# Altium footprint library DecentralizeLV_LPDRV.PcbLib: 7 footprints
Each footprint in its own frame and in the unit in brackets; x right, y up, seen from the top. Pads: shape width x height; smd on the part's side, far side on the other; paste and mask are expansions set on the pad; w line width, h text height; cw(c..) or ccw(c..) is an arc to the next point about the centre after c.
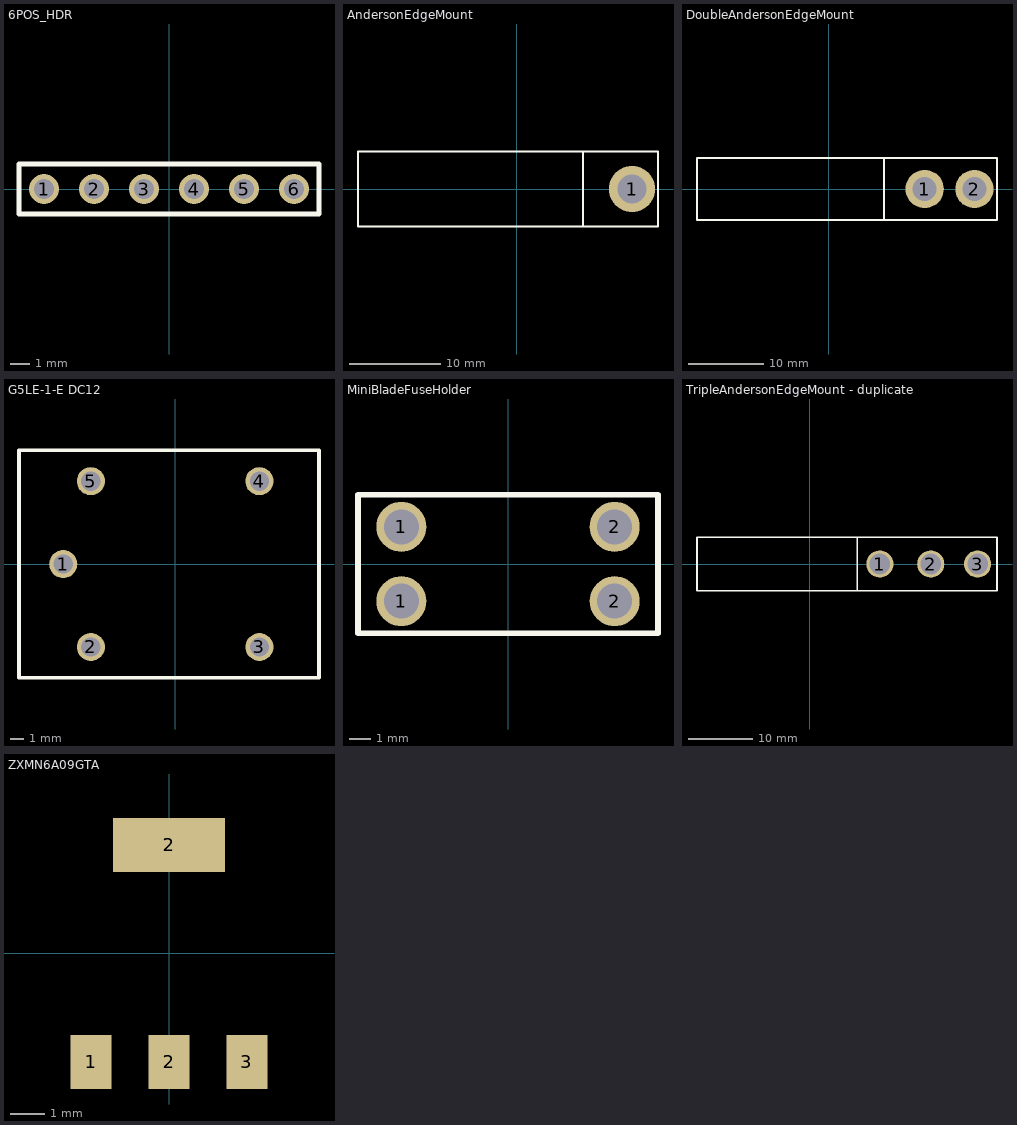
[diagram p0: the footprints below, top view; thin cyan lines are the x and y axes]

## 6POS_HDR [mil] "6 Position 0.1 Pitch Header"
pads (6):
  round 60 hole 40: 1(-250,0) 2(-150,0) 3(-50,0) 4(50,0) 5(150,0) 6(250,0)
Top Overlay:
  lines w10: -300,-50 300,-50 300,50 -300,50 -300,-50

## AndersonEdgeMount [mil] "An edge mounted anderson connector!"
pads (1):
  round 200 hole 125: 1(500,0)
Top Overlay:
  lines w10: 287.5,-162.5 287.5,162.5 ; 287.5,-162.5 612.5,-162.5 612.5,162.5 287.5,162.5 ; 287.5,-162.5 287.5,162.5 ; 287.5,-162.5 -687.5,-162.5 -687.5,162.5 287.5,162.5

## DoubleAndersonEdgeMount [mil] "An edge mounted anderson connector!"
pads (2):
  round 200 hole 125: 1(500,0) 2(760,0)
Top Overlay:
  lines w10: 552.5,-162.5 877.5,-162.5 877.5,162.5 552.5,162.5 ; 612.5,-162.5 287.5,-162.5 ; 612.5,162.5 287.5,162.5 ; 287.5,-162.5 -687.5,-162.5 -687.5,162.5 287.5,162.5 ; 287.5,-162.5 287.5,162.5 ; 287.5,-162.5 287.5,162.5

## G5LE-1-E DC12 [mil] "GeneralPurposeRelay16A"
pads (5):
  round 80 hole 55: 1(-318.9,0) 2(-240.16,-236.22) 3(240.16,-236.22) 4(240.16,236.22) 5(-240.16,236.22)
Top Overlay:
  lines w10: -445,-324.61 410,-324.61 410,325 -445,325 -445,-324.61

## MiniBladeFuseHolder [mil]
pads (4):
  round 90 hole 63: 1(-192,-67) 1(-192,67) 2(192,-67) 2(192,67)
Top Overlay:
  lines w10: -270,-125 270,-125 270,125 -270,125 -270,-125

## TripleAndersonEdgeMount - duplicate [mil] "An edge mounted anderson connector!"
pads (3):
  round 165 hole 125: 1(425,0) 2(735,0) 3(1020,0)
Top Overlay:
  lines w10: 1137.5,-162.5 287.5,-162.5 ; 1137.5,162.5 287.5,162.5 ; 1138,-162 1138,162 ; 287.5,-162.5 287.5,162.5 ; 287.5,-162.5 -687.5,-162.5 -687.5,162.5 287.5,162.5 ; 287.5,-162.5 287.5,162.5

## ZXMN6A09GTA [mm] "N-Channel MOSFET 60V 5.4A"
pads (4):
  rect 1.2x1.6 smd: 1(-2.3,-3.2) 2(0,-3.2) 3(2.3,-3.2)
  rect 3.3x1.6 smd: 2(0,3.2)